# Altium footprint library Lib.PcbLib: 32 footprints (part 1 of 2)
Each footprint in its own frame and in the unit in brackets; x right, y up, seen from the top. Pads: shape width x height; smd on the part's side, far side on the other; paste and mask are expansions set on the pad; w line width, h text height; cw(c..) or ccw(c..) is an arc to the next point about the centre after c.
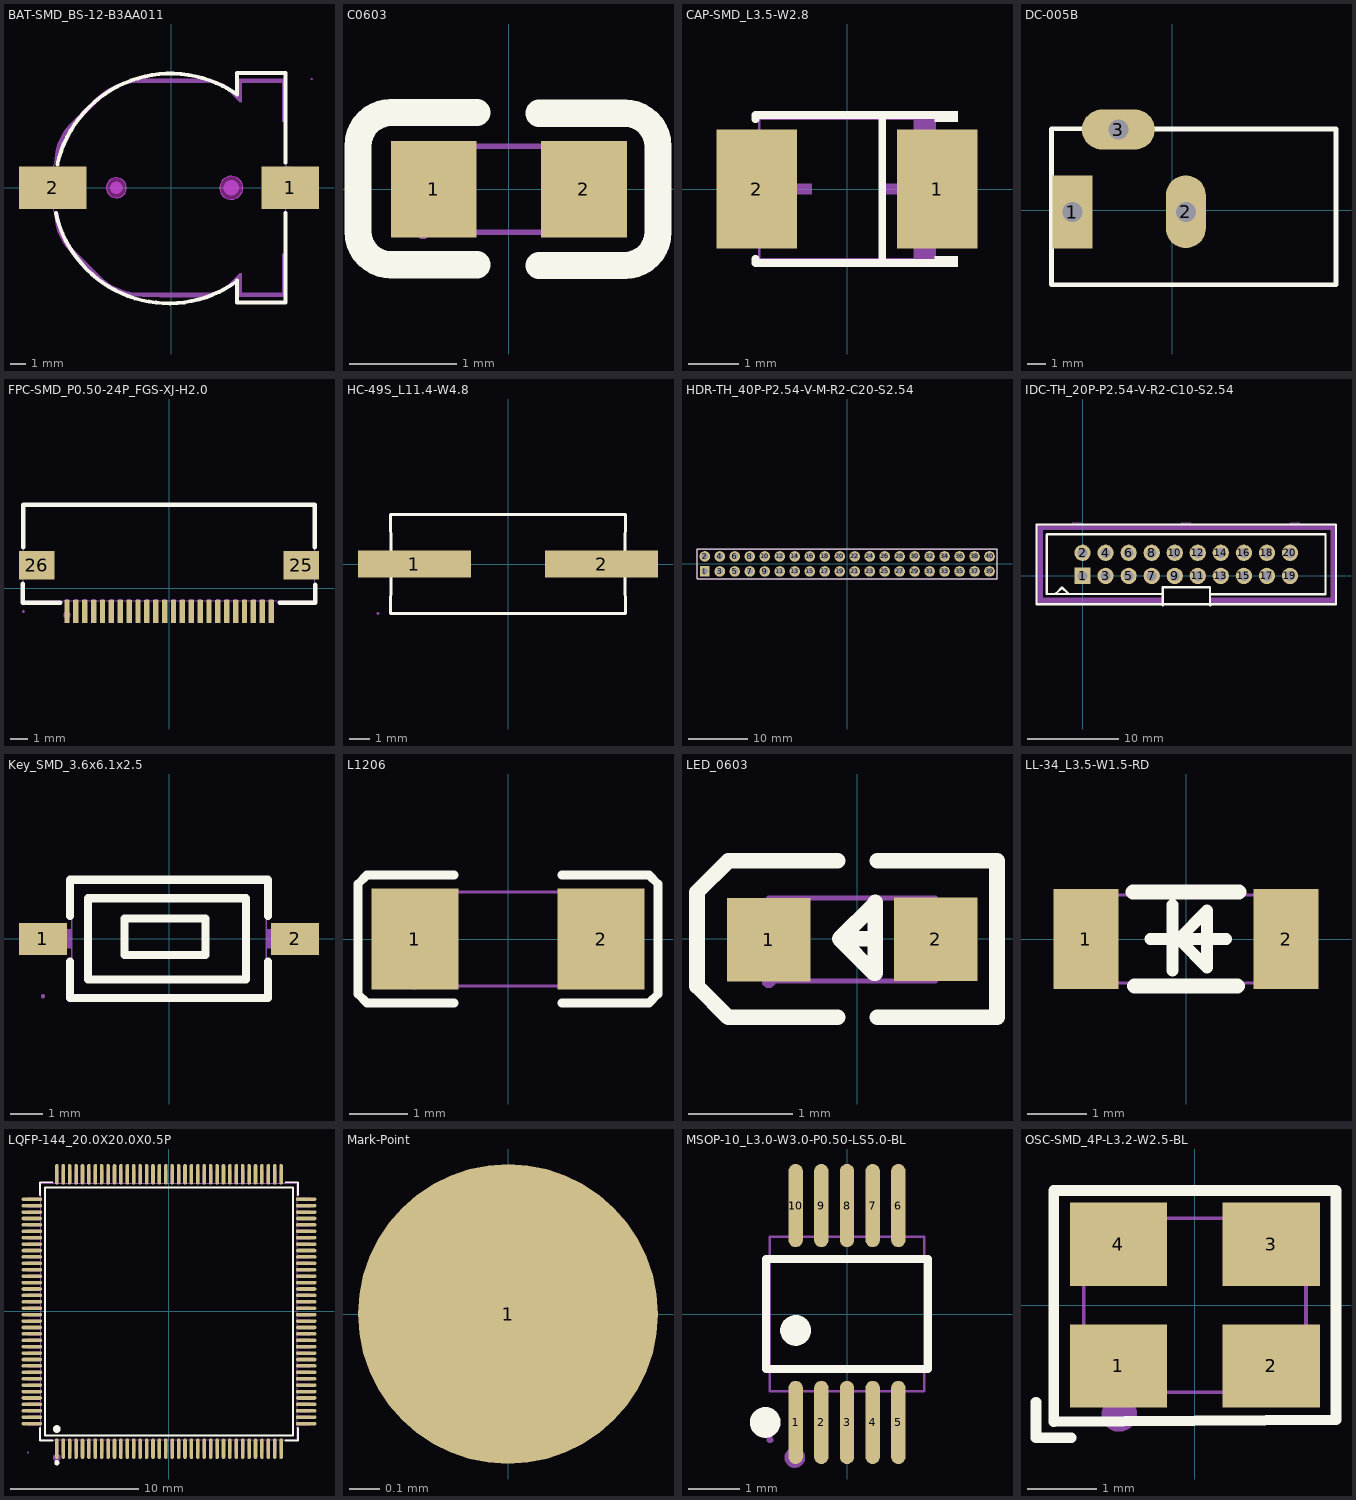
[diagram p0: the footprints below, top view; thin cyan lines are the x and y axes]

## BAT-SMD_BS-12-B3AA011 [mm]
pads (2):
  rect 3.75x2.8 smd: 1(7.75,0)
  rect 4.4x2.8 smd: 2(-7.75,0)
Top Overlay:
  lines w0.254: -7.548,-1.629 ccw(c-0.181,0) 4.285,-6.08 ; -7.448,1.53 cw(c-0.054,-0.127) 4.16,6.17 ; 4.264,-6.051 4.264,-7.493 7.439,-7.493 7.439,-7.366 7.439,-1.631 ; 4.264,6.096 4.264,7.493 7.439,7.493 7.439,1.631
Keep-Out Layer:
  circle w0.003: c-3.6,0 r0.65
  circle w0.003: c3.9,0 r0.75
  region: -3.6,-0.65 -3.686,-0.65 -3.851,-0.606 -3.999,-0.52 -4.12,-0.399 -4.206,-0.251 -4.25,-0.086 -4.25,0.086 -4.206,0.251 -4.12,0.399 -3.999,0.52 -3.851,0.606 -3.686,0.65 -3.6,0.65 -3.514,0.65 -3.349,0.606 -3.201,0.52 -3.08,0.399 -2.994,0.251 -2.95,0.086 -2.95,-0.086 -2.994,-0.251 -3.08,-0.399 -3.201,-0.52 -3.349,-0.606 -3.514,-0.65 -3.6,-0.65
  region: -3.6,-0.65 -3.686,-0.65 -3.851,-0.606 -3.999,-0.52 -4.12,-0.399 -4.206,-0.251 -4.25,-0.086 -4.25,0.086 -4.206,0.251 -4.12,0.399 -3.999,0.52 -3.851,0.606 -3.686,0.65 -3.6,0.65 -3.514,0.65 -3.349,0.606 -3.201,0.52 -3.08,0.399 -2.994,0.251 -2.95,0.086 -2.95,-0.086 -2.994,-0.251 -3.08,-0.399 -3.201,-0.52 -3.349,-0.606 -3.514,-0.65 -3.6,-0.65
  region: 3.9,-0.75 3.801,-0.75 3.611,-0.699 3.44,-0.6 3.3,-0.461 3.201,-0.289 3.15,-0.099 3.15,0.099 3.201,0.289 3.3,0.461 3.44,0.6 3.611,0.699 3.801,0.75 3.9,0.75 3.999,0.75 4.19,0.699 4.361,0.6 4.5,0.461 4.599,0.289 4.65,0.099 4.65,-0.099 4.599,-0.289 4.5,-0.461 4.361,-0.6 4.19,-0.699 3.999,-0.75 3.9,-0.75
  region: 3.9,-0.75 3.801,-0.75 3.611,-0.699 3.44,-0.6 3.3,-0.461 3.201,-0.289 3.15,-0.099 3.15,0.099 3.201,0.289 3.3,0.461 3.44,0.6 3.611,0.699 3.801,0.75 3.9,0.75 3.999,0.75 4.19,0.699 4.361,0.6 4.5,0.461 4.599,0.289 4.65,0.099 4.65,-0.099 4.599,-0.289 4.5,-0.461 4.361,-0.6 4.19,-0.699 3.999,-0.75 3.9,-0.75
Mechanical 1:
  circle w0.003: c-3.6,0 r0.65
  circle w0.003: c3.9,0 r0.75
Mechanical 4:
  drawing of 9 lines, arcs and shapes, not listed
Mechanical 5:
  lines w0.051: -7.849,-0.01 cw(c-0.749,-0.01) -0.749,7.09 -0.159,7.09 1.864,7.09 cw(c1.864,3.696) 4.264,6.096 4.264,7.1 7.531,7.1 7.439,-7.1 7.429,-7.09 4.264,-7.09 4.264,-6.051 cw(c1.731,-3.518) 1.731,-7.1 -0.169,-7.1 -0.759,-7.1 cw(c-0.759,-0.01) -7.849,-0.01
Mechanical 6:
  region: 9.15,7.04 9.125,7.04 9.09,7.075 9.09,7.125 9.125,7.16 9.15,7.16 9.175,7.16 9.21,7.125 9.21,7.075 9.175,7.04 9.15,7.04
Mechanical 7:
  region: -9.45,0.9 -7.25,0.9 -7.25,-0.9 -9.45,-0.9
  region: 6.95,0.9 9.15,0.9 9.15,-0.9 6.95,-0.9

## C0603 [mm]
pads (2):
  rect 0.8x0.9 smd: 1(-0.7,0) 2(0.7,0)
Top Overlay:
  lines w0.254: -0.296,-0.704 -1.096,-0.704 cw(c-1.096,-0.394) -1.406,-0.394 -1.405,0.406 cw(c-1.096,0.406) -1.096,0.715 -0.296,0.715 ; 0.28,-0.71 1.08,-0.71 ccw(c1.08,-0.4) 1.39,-0.4 1.39,0.4 ccw(c1.08,0.4) 1.08,0.71 0.28,0.71
Mechanical 5:
  lines w0.051: -0.8,-0.4 0.8,-0.4 0.8,0.4 -0.8,0.4 -0.8,-0.4
Mechanical 6:
  region: -0.86,-0.4 -0.86,-0.375 -0.825,-0.34 -0.775,-0.34 -0.74,-0.375 -0.74,-0.4 -0.74,-0.425 -0.775,-0.46 -0.825,-0.46 -0.86,-0.425 -0.86,-0.4
Mechanical 7:
  region: 0.8,-0.4 0.8,0.4 0.5,0.4 0.5,-0.4
  region: -0.8,-0.4 -0.8,0.4 -0.5,0.4 -0.5,-0.4

## CAP-SMD_L3.5-W2.8 [mm]
pads (2):
  rect 1.607x2.376 smd: 1(1.804,0) 2(-1.804,0)
Top Overlay:
  region: 1.75,1.552 1.75,1.34 2.207,1.34 2.207,1.552
  region: 1.75,-1.552 1.75,-1.34 2.207,-1.34 2.207,-1.552
  lines w0.152: -1.826,-1.391 -1.826,-1.476 1.826,-1.476 ; -1.826,1.391 -1.826,1.476 1.826,1.476 ; 0.704,-1.476 0.704,1.476
Mechanical 4:
  region: -1.54,-0.105 -1.54,0.105 -0.7,0.105 -0.7,-0.105
  region: 1.54,-0.105 1.54,0.105 0.7,0.105 0.7,-0.105
  region: 1.225,-0.7 1.225,0.7 1.015,0.7 1.015,-0.7
  region: 1.75,-1.4 1.75,-0.7 1.33,-0.7 1.33,-1.4
  region: 1.75,1.4 1.75,0.7 1.33,0.7 1.33,1.4
Mechanical 5:
  lines w0.051: -1.75,-1.4 1.75,-1.4 1.75,1.4 -1.75,1.4 -1.75,-1.4
Mechanical 6:
  region: 1.75,1.34 1.725,1.34 1.69,1.375 1.69,1.425 1.725,1.46 1.75,1.46 1.775,1.46 1.81,1.425 1.81,1.375 1.775,1.34 1.75,1.34
Mechanical 7:
  region: -1.75,-1.1 -1.75,1.1 -1,1.1 -1,-1.1
  region: 1.75,-1.1 1.75,1.1 1,1.1 1,-1.1

## DC-005B [mm]
pads (3):
  rect 2.2x4 hole 1.1: 1(-5.48,-0.1)
  oval 2.2x4 hole 1.1: 2(0.75,-0.085)
  oval 4x2.2 hole 1.1: 3(-2.95,4.435)
Top Overlay:
  lines w0.254: -4.265,4.476 -6.63,4.476 -6.63,-4.1 9,-4.1 9,4.461 -1.625,4.461

## FPC-SMD_P0.50-24P_FGS-XJ-H2.0 [mm]
pads (26):
  rect 0.3x1.3 smd: 1(-5.748,-1.301) 2(-5.248,-1.301) 3(-4.748,-1.301) 4(-4.248,-1.301) 5(-3.748,-1.301) 6(-3.248,-1.301) 7(-2.748,-1.301) 8(-2.248,-1.301) 9(-1.748,-1.301) 10(-1.248,-1.301) 11(-0.748,-1.301) 12(-0.248,-1.301) 13(0.252,-1.301) 14(0.752,-1.301) 15(1.252,-1.301) 16(1.752,-1.301) 17(2.252,-1.301) 18(2.752,-1.301) 19(3.252,-1.301) 20(3.752,-1.301) 21(4.252,-1.301) 22(4.752,-1.301) 23(5.252,-1.301) 24(5.752,-1.301)
  rect 2x1.6 smd: 25(7.45,1.301) 26(-7.45,1.301)
Top Overlay:
  lines w0.254: -8.25,0.27 -8.25,-0.8 -6.129,-0.8 ; -8.199,2.332 -8.199,4.701 8.199,4.701 ; 6.25,-0.8 8.25,-0.8 8.25,0.2 ; 8.2,2.332 8.2,4.701
Mechanical 4:
  circle w0.2: c-5.75,-1.5 r0.1
Mechanical 5:
  lines w0.051: -8.2,-0.7 -8.2,4.7 8.2,4.7 8.2,-0.7 -8.2,-0.7
Mechanical 6:
  region: -8.2,-1.241 -8.175,-1.241 -8.14,-1.277 -8.14,-1.326 -8.175,-1.361 -8.2,-1.361 -8.225,-1.361 -8.26,-1.326 -8.26,-1.277 -8.225,-1.241 -8.2,-1.241
Mechanical 7:
  region: 8.198,2.051 8.198,0.551 6.898,0.551 6.898,2.051
  region: -8.198,0.551 -8.198,2.051 -6.898,2.051 -6.898,0.551
  region: 5.653,-1.301 5.653,-0.601 5.853,-0.601 5.853,-1.301
  region: 5.152,-1.301 5.152,-0.601 5.352,-0.601 5.352,-1.301
  region: 4.652,-1.301 4.652,-0.601 4.852,-0.601 4.852,-1.301
  region: 4.152,-1.301 4.152,-0.601 4.352,-0.601 4.352,-1.301
  region: 3.652,-1.301 3.652,-0.601 3.852,-0.601 3.852,-1.301
  region: 3.152,-1.301 3.152,-0.601 3.352,-0.601 3.352,-1.301
  region: 2.652,-1.301 2.652,-0.601 2.852,-0.601 2.852,-1.301
  region: 2.153,-1.301 2.153,-0.601 2.353,-0.601 2.353,-1.301
  region: 1.152,-1.301 1.152,-0.601 1.352,-0.601 1.352,-1.301
  region: 1.652,-1.301 1.652,-0.601 1.852,-0.601 1.852,-1.301
  region: 0.652,-1.301 0.652,-0.601 0.852,-0.601 0.852,-1.301
  region: 0.152,-1.301 0.152,-0.601 0.352,-0.601 0.352,-1.301
  region: -0.347,-1.301 -0.347,-0.601 -0.147,-0.601 -0.147,-1.301
  region: -0.847,-1.301 -0.847,-0.601 -0.647,-0.601 -0.647,-1.301
  region: -1.348,-1.301 -1.348,-0.601 -1.148,-0.601 -1.148,-1.301
  region: -1.848,-1.301 -1.848,-0.601 -1.648,-0.601 -1.648,-1.301
  region: -2.347,-1.301 -2.347,-0.601 -2.147,-0.601 -2.147,-1.301
  region: -2.847,-1.301 -2.847,-0.601 -2.647,-0.601 -2.647,-1.301
  region: -3.348,-1.301 -3.348,-0.601 -3.148,-0.601 -3.148,-1.301
  region: -3.848,-1.301 -3.848,-0.601 -3.648,-0.601 -3.648,-1.301
  region: -4.348,-1.301 -4.348,-0.601 -4.148,-0.601 -4.148,-1.301
  region: -4.847,-1.301 -4.847,-0.601 -4.647,-0.601 -4.647,-1.301
  region: -5.347,-1.301 -5.347,-0.601 -5.147,-0.601 -5.147,-1.301
  region: -5.848,-1.301 -5.848,-0.601 -5.648,-0.601 -5.648,-1.301

## HC-49S_L11.4-W4.8 [mm]
pads (2):
  rect 5.5x1.3 smd: 1(-4.553,0) 2(4.553,0)
Top Overlay:
  lines w0.152: -5.715,-2.413 5.715,-2.413 ; -5.715,-2.413 -5.7,-0.662 -5.715,-2.413 ; -5.715,-2.413 5.715,-2.413 ; -5.715,2.413 -5.7,0.662 -5.715,2.413 ; -5.715,2.413 5.715,2.413 ; -5.715,2.413 5.715,2.413 ; 5.715,-2.413 5.7,-0.662 5.715,-2.413 ; 5.715,2.413 5.7,0.662 5.715,2.413
Mechanical 5:
  lines w0.051: -5.7,-2.4 -5.7,2.4 5.7,2.4 5.7,-2.4 -5.7,-2.4
Mechanical 6:
  region: -6.34,-2.46 -6.365,-2.46 -6.4,-2.425 -6.4,-2.375 -6.365,-2.34 -6.34,-2.34 -6.315,-2.34 -6.28,-2.375 -6.28,-2.425 -6.315,-2.46 -6.34,-2.46
Mechanical 7:
  region: 6.34,-0.4 1.84,-0.4 1.84,0.4 6.34,0.4
  region: -1.84,-0.4 -6.34,-0.4 -6.34,0.4 -1.84,0.4

## HDR-TH_40P-P2.54-V-M-R2-C20-S2.54 [mil]
pads (40):
  rect 62x70.9 hole 43.3 paste-99999 mask+2: 1(-950,-50)
  round 70.9 hole 43.3 paste-99999 mask+2: 2(-950,50) 3(-850,-50) 4(-850,50) 5(-750,-50) 6(-750,50) 7(-650,-50) 8(-650,50) 9(-550,-50) 10(-550,50) 11(-450,-50) 12(-450,50) 13(-350,-50) 14(-350,50) 15(-250,-50) 16(-250,50) 17(-150,-50) 18(-150,50) 19(-50,-50) 20(-50,50) 21(50,-50) 22(50,50) 23(150,-50) 24(150,50) 25(250,-50) 26(250,50) 27(350,-50) 28(350,50) 29(450,-50) 30(450,50) 31(550,-50) 32(550,50) 33(650,-50) 34(650,50) 35(750,-50) 36(750,50) 37(850,-50) 38(850,50) 39(950,-50) 40(950,50)
Top Overlay:
  lines w8: -1000,-100 1000,-100 1000,100 -1000,100 -1000,-100
Mechanical 5:
  lines w2: -1000,-98.4 -1000,98.4 1000,98.4 1000,-98.4 -1000,-98.4
Mechanical 6:
  region: -1000,-100.8 -999.01,-100.8 -997.6,-99.39 -997.6,-97.41 -999.01,-96 -1000,-96 -1000.99,-96 -1002.4,-97.41 -1002.4,-99.39 -1000.99,-100.8 -1000,-100.8
Mechanical 7:
  drawing of 40 lines, arcs and shapes, not listed

## IDC-TH_20P-P2.54-V-R2-C10-S2.54 [mm]
pads (20):
  rect 1.8x1.8 hole 1.1 paste-2539.97 mask+0.051: 1(0,0)
  round 1.8 hole 1.1 paste-2539.97 mask+0.051: 2(0,2.54) 3(2.54,0) 4(2.54,2.54) 5(5.08,0) 6(5.08,2.54) 7(7.62,0) 8(7.62,2.54) 9(10.16,0) 10(10.16,2.54) 11(12.7,0) 12(12.7,2.54) 13(15.24,0) 14(15.24,2.54) 15(17.78,0) 16(17.78,2.54) 17(20.32,0) 18(20.32,2.54) 19(22.86,0) 20(22.86,2.54)
Top Overlay:
  lines w0.254: -3.937,4.563 -3.937,-2.007 8.814,-2.007 8.839,-1.981 ; -3.928,4.572 26.772,4.572 26.772,-1.998 ; -2.896,-1.905 -2.261,-1.27 -1.575,-1.956 -1.575,-1.981 ; 8.839,-3.226 8.839,-1.245 9.068,-1.245 14.046,-1.245 14.046,-3.226 14.072,-3.251 ; 14.046,-2.057 14.046,-2.032 26.772,-2.032 26.772,-2.007 ; -5.07,-3.13 -5.07,5.67 27.93,5.67 27.93,-3.13 -5.07,-3.13
Mechanical 4:
  region: 14.03,-3.13 27.93,-3.13 27.93,5.67 -5.07,5.67 -5.07,-3.13 8.83,-3.13 8.83,-2.43 -4.27,-2.43 -4.37,-2.43 -4.37,5.07 27.33,5.07 27.33,-2.43 14.03,-2.43
Mechanical 5:
  lines w0.051: -5.07,-3.13 27.93,-3.13 27.93,5.67 23.93,5.67 23.93,5.87 23.43,5.87 22.93,5.87 22.93,5.67 11.93,5.67 11.93,5.87 11.43,5.87 10.93,5.87 10.93,5.67 -0.07,5.67 -0.07,5.87 -0.57,5.87 -1.07,5.87 -1.07,5.67 -5.07,5.67 -5.07,-3.13
Mechanical 6:
  region: -5.07,-3.07 -5.045,-3.07 -5.01,-3.105 -5.01,-3.155 -5.045,-3.19 -5.07,-3.19 -5.095,-3.19 -5.13,-3.155 -5.13,-3.105 -5.095,-3.07 -5.07,-3.07
Mechanical 7:
  region: -0.32,0.32 0.32,0.32 0.32,-0.32 -0.32,-0.32
  region: -0.32,2.86 0.32,2.86 0.32,2.22 -0.32,2.22
  region: 2.22,0.32 2.86,0.32 2.86,-0.32 2.22,-0.32
  region: 2.22,2.86 2.86,2.86 2.86,2.22 2.22,2.22
  region: 4.76,0.32 5.4,0.32 5.4,-0.32 4.76,-0.32
  region: 4.76,2.86 5.4,2.86 5.4,2.22 4.76,2.22
  region: 7.3,0.32 7.94,0.32 7.94,-0.32 7.3,-0.32
  region: 7.3,2.86 7.94,2.86 7.94,2.22 7.3,2.22
  region: 9.84,0.32 10.48,0.32 10.48,-0.32 9.84,-0.32
  region: 9.84,2.86 10.48,2.86 10.48,2.22 9.84,2.22
  region: 12.38,0.32 13.02,0.32 13.02,-0.32 12.38,-0.32
  region: 12.38,2.86 13.02,2.86 13.02,2.22 12.38,2.22
  region: 14.92,0.32 15.56,0.32 15.56,-0.32 14.92,-0.32
  region: 14.92,2.86 15.56,2.86 15.56,2.22 14.92,2.22
  region: 17.46,0.32 18.1,0.32 18.1,-0.32 17.46,-0.32
  region: 17.46,2.86 18.1,2.86 18.1,2.22 17.46,2.22
  region: 20,0.32 20.64,0.32 20.64,-0.32 20,-0.32
  region: 20,2.86 20.64,2.86 20.64,2.22 20,2.22
  region: 22.54,0.32 23.18,0.32 23.18,-0.32 22.54,-0.32
  region: 22.54,2.86 23.18,2.86 23.18,2.22 22.54,2.22

## Key_SMD_3.6x6.1x2.5 [mil]
pads (2):
  rect 59.1x39.4 smd paste+0 mask+2: 1(-155.5,0) 2(155.5,0)
Top Overlay:
  lines w10: -122,-27.9 -122,-72.8 122,-72.8 122,-27.9 ; -122,27.9 -122,72.8 122,72.8 122,27.9 ; -100,-50 -100,50 95,50 95,-50 -100,-50 ; -55,-20 45,-20 45,25 -55,25 -55,-20
Mechanical 5:
  lines w2: -120.1,-70.9 120.1,-70.9 120.1,70.9 -120.1,70.9 -120.1,-70.9
Mechanical 6:
  region: -153.1,-70.9 -153.1,-71.89 -154.51,-73.3 -156.49,-73.3 -157.9,-71.89 -157.9,-70.9 -157.9,-69.91 -156.49,-68.5 -154.51,-68.5 -153.1,-69.91 -153.1,-70.9
Mechanical 7:
  region: 135.8,-11.8 135.8,11.8 155.5,11.8 155.5,-11.8
  region: -155.5,-11.8 -155.5,11.8 -135.8,11.8 -135.8,-11.8
Mechanical 8:
  region: 119.7,-11.8 119.7,11.8 136.2,11.8 136.2,-11.8
  region: -136.2,-11.8 -136.2,11.8 -119.7,11.8 -119.7,-11.8

## L1206 [mm]
pads (2):
  rect 1.485x1.728 smd paste-100 mask+0.051: 1(-1.593,0) 2(1.593,0)
Top Overlay:
  lines w0.152: -0.926,-1.093 -2.411,-1.093 -2.564,-0.94 -2.564,0.94 -2.411,1.093 -0.926,1.093 ; 0.926,-1.093 2.411,-1.093 2.564,-0.94 2.564,0.94 2.411,1.093 0.926,1.093
Top Paste:
  region: -0.85,-0.764 -0.85,-0.394 -0.95,-0.294 -1.255,-0.294 -1.355,-0.194 -1.355,0.194 -1.255,0.294 -0.95,0.294 -0.85,0.394 -0.85,0.764 -0.95,0.864 -2.235,0.864 -2.335,0.764 -2.335,-0.764 -2.235,-0.864 -0.95,-0.864
  region: 0.85,-0.764 0.85,-0.394 0.95,-0.294 1.255,-0.294 1.355,-0.194 1.355,0.194 1.255,0.294 0.95,0.294 0.85,0.394 0.85,0.764 0.95,0.864 2.235,0.864 2.335,0.764 2.335,-0.764 2.235,-0.864 0.95,-0.864
Mechanical 5:
  lines w0.051: -1.6,-0.8 1.6,-0.8 1.6,0.8 -1.6,0.8 -1.6,-0.8
Mechanical 6:
  region: -1.6,-0.86 -1.575,-0.86 -1.54,-0.825 -1.54,-0.775 -1.575,-0.74 -1.6,-0.74 -1.625,-0.74 -1.66,-0.775 -1.66,-0.825 -1.625,-0.86 -1.6,-0.86
Mechanical 7:
  region: 1.6,-0.8 1.6,0.8 1.1,0.8 1.1,-0.8
  region: -1.6,-0.8 -1.6,0.8 -1.1,0.8 -1.1,-0.8

## LED_0603 [mil]
pads (2):
  rect 31.5x31.5 smd paste+0 mask+2: 1(-33.5,-0.4) 2(29.5,-0.2)
Top Overlay:
  lines w5.9: -7.5,-29.7 -48.8,-29.7 -60.6,-17.9 -60.6,-13.9 -60.6,13.6 -60.6,17.6 -48.8,29.4 -7.5,29.4 ; 6.7,0 -6.7,0 ; 7.5,-29.6 52.7,-29.6 ; 7.5,29.5 52.7,29.5 52.7,-28.8 ; -6.7,0 6.7,13.3 6.7,13.7 6.7,-13 6.3,-13 -6.7,0
Mechanical 4:
  region: -44.1,2.1 -22.9,2.1 -22.9,-3 -44.1,-3
  region: 26.9,-10.8 26.9,10.4 32,10.4 32,-10.8
  region: 18.8,2.4 40.1,2.4 40.1,-2.7 18.8,-2.7
Mechanical 5:
  lines w2: -33.5,-16 29.5,-16 29.5,15.4 -33.5,15.4 -33.5,-16
Mechanical 6:
  region: -33.5,-18.6 -34.49,-18.6 -35.9,-17.19 -35.9,-15.21 -34.49,-13.8 -33.5,-13.8 -32.51,-13.8 -31.1,-15.21 -31.1,-17.19 -32.51,-18.6 -33.5,-18.6
Mechanical 7:
  region: -33.5,-16.2 -33.5,15.3 -21.7,15.3 -21.7,-16.2
  region: 17.7,-15.9 17.7,15.6 29.5,15.6 29.5,-15.9

## LL-34_L3.5-W1.5-RD [mm]
pads (2):
  rect 1.1x1.7 smd: 1(-1.7,0) 2(1.7,0)
Top Overlay:
  lines w0.2: -0.61,0 0.686,0 ; -0.229,-0.533 -0.229,0.584 ; -0.127,0 0.356,0.483 0.356,-0.483 -0.102,-0.025
  lines w0.254: -0.9,0.8 0.9,0.8 ; -0.878,-0.8 0.878,-0.8
Mechanical 4:
  region: -1.365,-0.096 -2.026,-0.096 -2.026,0.082 -1.365,0.082
  region: 2.035,-0.096 1.374,-0.096 1.374,0.082 2.035,0.082
  region: 1.604,-0.335 1.604,0.326 1.782,0.326 1.782,-0.335
Mechanical 5:
  lines w0.051: -1.746,-0.75 1.754,-0.75 1.754,0.75 -1.746,0.75 -1.746,-0.75
Mechanical 6:
  region: -1.746,-0.81 -1.771,-0.81 -1.806,-0.775 -1.806,-0.725 -1.771,-0.69 -1.746,-0.69 -1.721,-0.69 -1.686,-0.725 -1.686,-0.775 -1.721,-0.81 -1.746,-0.81
Mechanical 7:
  region: -1.346,-0.75 -1.746,-0.75 -1.746,0.75 -1.346,0.75
  region: 1.754,-0.75 1.354,-0.75 1.354,0.75 1.754,0.75

## LQFP-144_20.0X20.0X0.5P [mm]
pads (144):
  oval 0.28x1.6 smd: 1(-8.75,-10.7) 2(-8.25,-10.7) 3(-7.75,-10.7) 4(-7.25,-10.7) 5(-6.75,-10.7) 6(-6.25,-10.7) 7(-5.75,-10.7) 8(-5.25,-10.7) 9(-4.75,-10.7) 10(-4.25,-10.7) 11(-3.75,-10.7) 12(-3.25,-10.7) 13(-2.75,-10.7) 14(-2.25,-10.7) 15(-1.75,-10.7) 16(-1.25,-10.7) 17(-0.75,-10.7) 18(-0.25,-10.7) 19(0.25,-10.7) 20(0.75,-10.7) 21(1.25,-10.7) 22(1.75,-10.7) 23(2.25,-10.7) 24(2.75,-10.7) 25(3.25,-10.7) 26(3.75,-10.7) 27(4.25,-10.7) 28(4.75,-10.7) 29(5.25,-10.7) 30(5.75,-10.7) 31(6.25,-10.7) 32(6.75,-10.7) 33(7.25,-10.7) 34(7.75,-10.7) 35(8.25,-10.7) 36(8.75,-10.7) 73(8.75,10.7) 74(8.25,10.7) 75(7.75,10.7) 76(7.25,10.7) 77(6.75,10.7) 78(6.25,10.7) 79(5.75,10.7) 80(5.25,10.7) 81(4.75,10.7) 82(4.25,10.7) 83(3.75,10.7) 84(3.25,10.7) 85(2.75,10.7) 86(2.25,10.7) 87(1.75,10.7) 88(1.25,10.7) 89(0.75,10.7) 90(0.25,10.7) 91(-0.25,10.7) 92(-0.75,10.7) 93(-1.25,10.7) 94(-1.75,10.7) 95(-2.25,10.7) 96(-2.75,10.7) 97(-3.25,10.7) 98(-3.75,10.7) 99(-4.25,10.7) 100(-4.75,10.7) 101(-5.25,10.7) 102(-5.75,10.7) 103(-6.25,10.7) 104(-6.75,10.7) 105(-7.25,10.7) 106(-7.75,10.7) 107(-8.25,10.7) 108(-8.75,10.7)
  oval 1.6x0.28 smd: 37(10.7,-8.75) 38(10.7,-8.25) 39(10.7,-7.75) 40(10.7,-7.25) 41(10.7,-6.75) 42(10.7,-6.25) 43(10.7,-5.75) 44(10.7,-5.25) 45(10.7,-4.75) 46(10.7,-4.25) 47(10.7,-3.75) 48(10.7,-3.25) 49(10.7,-2.75) 50(10.7,-2.25) 51(10.7,-1.75) 52(10.7,-1.25) 53(10.7,-0.75) 54(10.7,-0.25) 55(10.7,0.25) 56(10.7,0.75) 57(10.7,1.25) 58(10.7,1.75) 59(10.7,2.25) 60(10.7,2.75) 61(10.7,3.25) 62(10.7,3.75) 63(10.7,4.25) 64(10.7,4.75) 65(10.7,5.25) 66(10.7,5.75) 67(10.7,6.25) 68(10.7,6.75) 69(10.7,7.25) 70(10.7,7.75) 71(10.7,8.25) 72(10.7,8.75) 109(-10.7,8.75) 110(-10.7,8.25) 111(-10.7,7.75) 112(-10.7,7.25) 113(-10.7,6.75) 114(-10.7,6.25) 115(-10.7,5.75) 116(-10.7,5.25) 117(-10.7,4.75) 118(-10.7,4.25) 119(-10.7,3.75) 120(-10.7,3.25) 121(-10.7,2.75) 122(-10.7,2.25) 123(-10.7,1.75) 124(-10.7,1.25) 125(-10.7,0.75) 126(-10.7,0.25) 127(-10.7,-0.25) 128(-10.7,-0.75) 129(-10.7,-1.25) 130(-10.7,-1.75) 131(-10.7,-2.25) 132(-10.7,-2.75) 133(-10.7,-3.25) 134(-10.7,-3.75) 135(-10.7,-4.25) 136(-10.7,-4.75) 137(-10.7,-5.25) 138(-10.7,-5.75) 139(-10.7,-6.25) 140(-10.7,-6.75) 141(-10.7,-7.25) 142(-10.7,-7.75) 143(-10.7,-8.25) 144(-10.7,-8.75)
Top Overlay:
  circle w0.2: c-8.75,-11.8 r0.1
  circle w0.3: c-8.75,-9.171 r0.15
  lines w0.152: -10.076,-9.08 -10.076,-10.076 -9.08,-10.076 ; -10.076,9.08 -10.076,10.076 -9.08,10.076 ; 9.08,-10.076 10.076,-10.076 10.076,-9.08 ; 9.08,10.076 10.076,10.076 10.076,9.08 ; -9.671,-9.671 -9.671,9.671 9.671,9.671 9.671,-9.671 -9.671,-9.671
Mechanical 4:
  circle w0.3: c-8.75,-11.4 r0.15
Mechanical 5:
  lines w0.051: -10,-10 -10,10 10,10 10,-10 -10,-10
Mechanical 6:
  region: -11.042,-10.958 -11.025,-10.94 -10.975,-10.94 -10.94,-10.975 -10.94,-11.025 -10.958,-11.042 -10.975,-11.06 -11.025,-11.06 -11.06,-11.025 -11.06,-10.975 -11.042,-10.958
Mechanical 7:
  drawing of 144 lines, arcs and shapes, not listed
Mechanical 8:
  drawing of 144 lines, arcs and shapes, not listed

## Mark-Point [mm]
pads (1):
  round 1 smd paste-25.4 mask+0.5: 1(0,0)

## MSOP-10_L3.0-W3.0-P0.50-LS5.0-BL [mm]
pads (10):
  oval 0.28x1.62 smd: 1(-1,-2.11) 2(-0.5,-2.11) 3(0,-2.11) 4(0.5,-2.11) 5(1,-2.11) 6(1,2.11) 7(0.5,2.11) 8(0,2.11) 9(-0.5,2.11) 10(-1,2.11)
Top Overlay:
  circle w0.3: c-1,-0.319 r0.15
  circle w0.3: c-1.592,-2.11 r0.15
  lines w0.152: -1.576,-1.071 -1.576,1.071 1.576,1.071 1.576,-1.071 -1.576,-1.071
Mechanical 4:
  circle w0.2: c-1.016,-2.794 r0.1
Mechanical 5:
  lines w0.051: -1.5,-1.5 -1.5,1.5 1.5,1.5 1.5,-1.5 -1.5,-1.5
Mechanical 6:
  region: -1.5,-2.39 -1.475,-2.39 -1.44,-2.425 -1.44,-2.475 -1.475,-2.51 -1.5,-2.51 -1.525,-2.51 -1.56,-2.475 -1.56,-2.425 -1.525,-2.39 -1.5,-2.39
Mechanical 7:
  region: -1.112,-2.45 -1.112,-1.9 -0.888,-1.9 -0.888,-2.45
  region: -0.612,-2.45 -0.612,-1.9 -0.388,-1.9 -0.388,-2.45
  region: -0.112,-2.45 -0.112,-1.9 0.112,-1.9 0.112,-2.45
  region: 0.388,-2.45 0.388,-1.9 0.612,-1.9 0.612,-2.45
  region: 0.888,-2.45 0.888,-1.9 1.112,-1.9 1.112,-2.45
  region: -1.112,2.45 -1.112,1.9 -0.888,1.9 -0.888,2.45
  region: -0.612,2.45 -0.612,1.9 -0.388,1.9 -0.388,2.45
  region: -0.112,2.45 -0.112,1.9 0.112,1.9 0.112,2.45
  region: 0.388,2.45 0.388,1.9 0.612,1.9 0.612,2.45
  region: 0.888,2.45 0.888,1.9 1.112,1.9 1.112,2.45
Mechanical 8:
  region: -1.112,-1.91 -1.112,-1.49 -0.888,-1.49 -0.888,-1.91
  region: -0.612,-1.91 -0.612,-1.49 -0.388,-1.49 -0.388,-1.91
  region: -0.112,-1.91 -0.112,-1.49 0.112,-1.49 0.112,-1.91
  region: 0.388,-1.91 0.388,-1.49 0.612,-1.49 0.612,-1.91
  region: 0.888,-1.91 0.888,-1.49 1.112,-1.49 1.112,-1.91
  region: -1.112,1.91 -1.112,1.49 -0.888,1.49 -0.888,1.91
  region: -0.612,1.91 -0.612,1.49 -0.388,1.49 -0.388,1.91
  region: -0.112,1.91 -0.112,1.49 0.112,1.49 0.112,1.91
  region: 0.388,1.91 0.388,1.49 0.612,1.49 0.612,1.91
  region: 0.888,1.91 0.888,1.49 1.112,1.49 1.112,1.91

## OSC-SMD_4P-L3.2-W2.5-BL [mm]
pads (4):
  rect 1.4x1.2 smd: 1(-1.1,-0.875) 2(1.1,-0.875) 3(1.1,0.875) 4(-1.1,0.875)
Top Overlay:
  lines w0.152: -2.286,-1.397 -2.286,-1.905 -1.778,-1.905 ; -2.029,-1.679 2.032,-1.651 2.032,0 2.032,1.651 -2.029,1.651 -2.029,-1.679
Mechanical 4:
  circle w0.254: c-1.088,-1.567 r0.127
  region: -1.738,-0.536 -1.702,-0.536 -1.702,-0.608 -1.738,-0.608
  region: -1.702,-0.536 -1.666,-0.536 -1.666,-0.608 -1.702,-0.608
  region: -1.666,-0.5 -1.63,-0.5 -1.63,-0.608 -1.666,-0.608
  region: -1.63,-0.464 -1.594,-0.464 -1.594,-0.572 -1.63,-0.572
  region: -1.594,-0.464 -1.558,-0.464 -1.558,-1.004 -1.594,-1.004
  region: -1.558,-0.428 -1.522,-0.428 -1.522,-1.004 -1.558,-1.004
  region: -1.522,-0.428 -1.486,-0.428 -1.486,-1.004 -1.522,-1.004
  region: -1.486,-0.428 -1.45,-0.428 -1.45,-1.004 -1.486,-1.004
Mechanical 5:
  lines w0.051: -1.6,-1.25 1.6,-1.25 1.6,1.25 -1.6,1.25 -1.6,-1.25
Mechanical 6:
  region: -1.66,-1.25 -1.66,-1.275 -1.625,-1.31 -1.575,-1.31 -1.54,-1.275 -1.54,-1.25 -1.54,-1.225 -1.575,-1.19 -1.625,-1.19 -1.66,-1.225 -1.66,-1.25
Mechanical 7:
  region: 0.6,-0.449 1.5,-0.449 1.5,-1.249 0.6,-1.249
  region: -1.5,-0.449 -0.6,-0.449 -0.6,-1.249 -1.5,-1.249
  region: -1.5,1.249 -0.6,1.249 -0.6,0.449 -1.5,0.449
  region: 0.6,1.249 1.5,1.249 1.5,0.449 0.6,0.449